# EAGLE library part WE-SPXO_IQXO-618-25 (library Wurth_Quartz Crystals & Oscillators_WE-SPXO)
WE-SPXO Simple Packaged Quartz Oscillator Characteristics SMT models Hermetically sealed Frequencies between 3.6864 MHz and 125 MHz Maximum operating temperatures range:-40 °C to 85 °C Stabilities down to ± 25 ppm available Available supply voltages: 1.8 V, 3.3 V and 5 V Available output signal types: CMOS; HCMOS; HCMOS/TTL Applications Microprocessor Wireless Communication Devices Industrial Devices Real Time Clocks Wired Communication (e.g. Ethernet and USB) IoT Optical Network Audio and Multimedia Devices Test and Measurement Equipment Navigation and Locators <https://www.we-online.com/catalog/media/o135918v209%20Family_WE-SPXO.jpg> Details see: https://www.we-online.com/catalog/en/WE-SPXO Created by Ella Wu, 2020-11-23 2020 (C) Wurth Elektronik
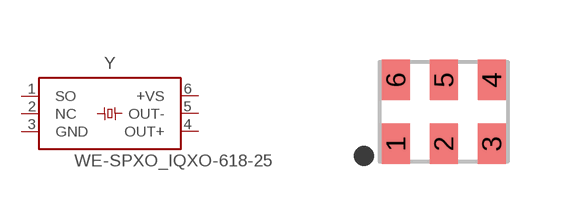
[diagram p3: symbol with the pads of WE-SPXO_IQXO-618-25; footprint WE-SPXO_IQXO-618-25]

Designator prefix Y

## WE-SPXO_IQXO-618-25_830207511509 (DATASHEET-URL: https://www.we-online.com/catalog/datasheet/830207511509.pdf; MOUNT: SMT; PART-NUMBER: 830207511509; STABILITY: 50ppm; V-SUPPLY: 2.5V; VALUE: 125MHz), WE-SPXO_IQXO-618-25_830208332209 (DATASHEET-URL: https://www.we-online.com/catalog/datasheet/830208332209.pdf; MOUNT: SMT; PART-NUMBER: 830208332209; STABILITY: 50ppm; V-SUPPLY: 2.5V; VALUE: 100MHz), WE-SPXO_IQXO-618-25_830208332309 (DATASHEET-URL: https://www.we-online.com/catalog/datasheet/830208332309.pdf; MOUNT: SMT; PART-NUMBER: 830208332309; STABILITY: 50ppm; V-SUPPLY: 2.5V; VALUE: 156.25MHz)  [WE-SPXO_IQXO-618-25]
1  SO  in
2  NC  out
3  GND  pwr
4  OUT+  out
5  OUT-  out
6  +VS  pwr

## Footprint WE-SPXO_IQXO-618-25 (pad centres in mm)
WE-SPXO Simple Packaged Quartz Oscillator Size : IQXO-618-25 L X W X H = 3.2mm X 2.5mm X 1.1mm
smd 0.7 x 1: 1 -1.2,-0.8; 2 0,-0.8; 3 1.2,-0.8; 4 1.2,0.8; 5 0,0.8; 6 -1.2,0.8